# Altium schematic symbol library CAP SMD 6.6mm.SchLib: 1 symbol
Pins are listed as number, name and electrical type; pins without a type are passive.

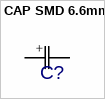
[diagram p0: symbol CAP SMD 6.6mm]

## CAP SMD 6.6mm
designator C?
Manufacturer_Part_Number: EEE-1VA101XP; C: Copyright (C) 2015 Accelerated Designs. All rights reserved; Vendor: Panasonic; Built_By: EMA_UL_Team
footprint CAP_EEE_D8
pins: 1, 2
1 alternate drawing of the same symbol
text: +